# Altium footprint library Connector.PCBLIB: 82 footprints (part 2 of 6)
Each footprint in its own frame and in the unit in brackets; x right, y up, seen from the top. Pads: shape width x height; smd on the part's side, far side on the other; paste and mask are expansions set on the pad; w line width, h text height; cw(c..) or ccw(c..) is an arc to the next point about the centre after c.
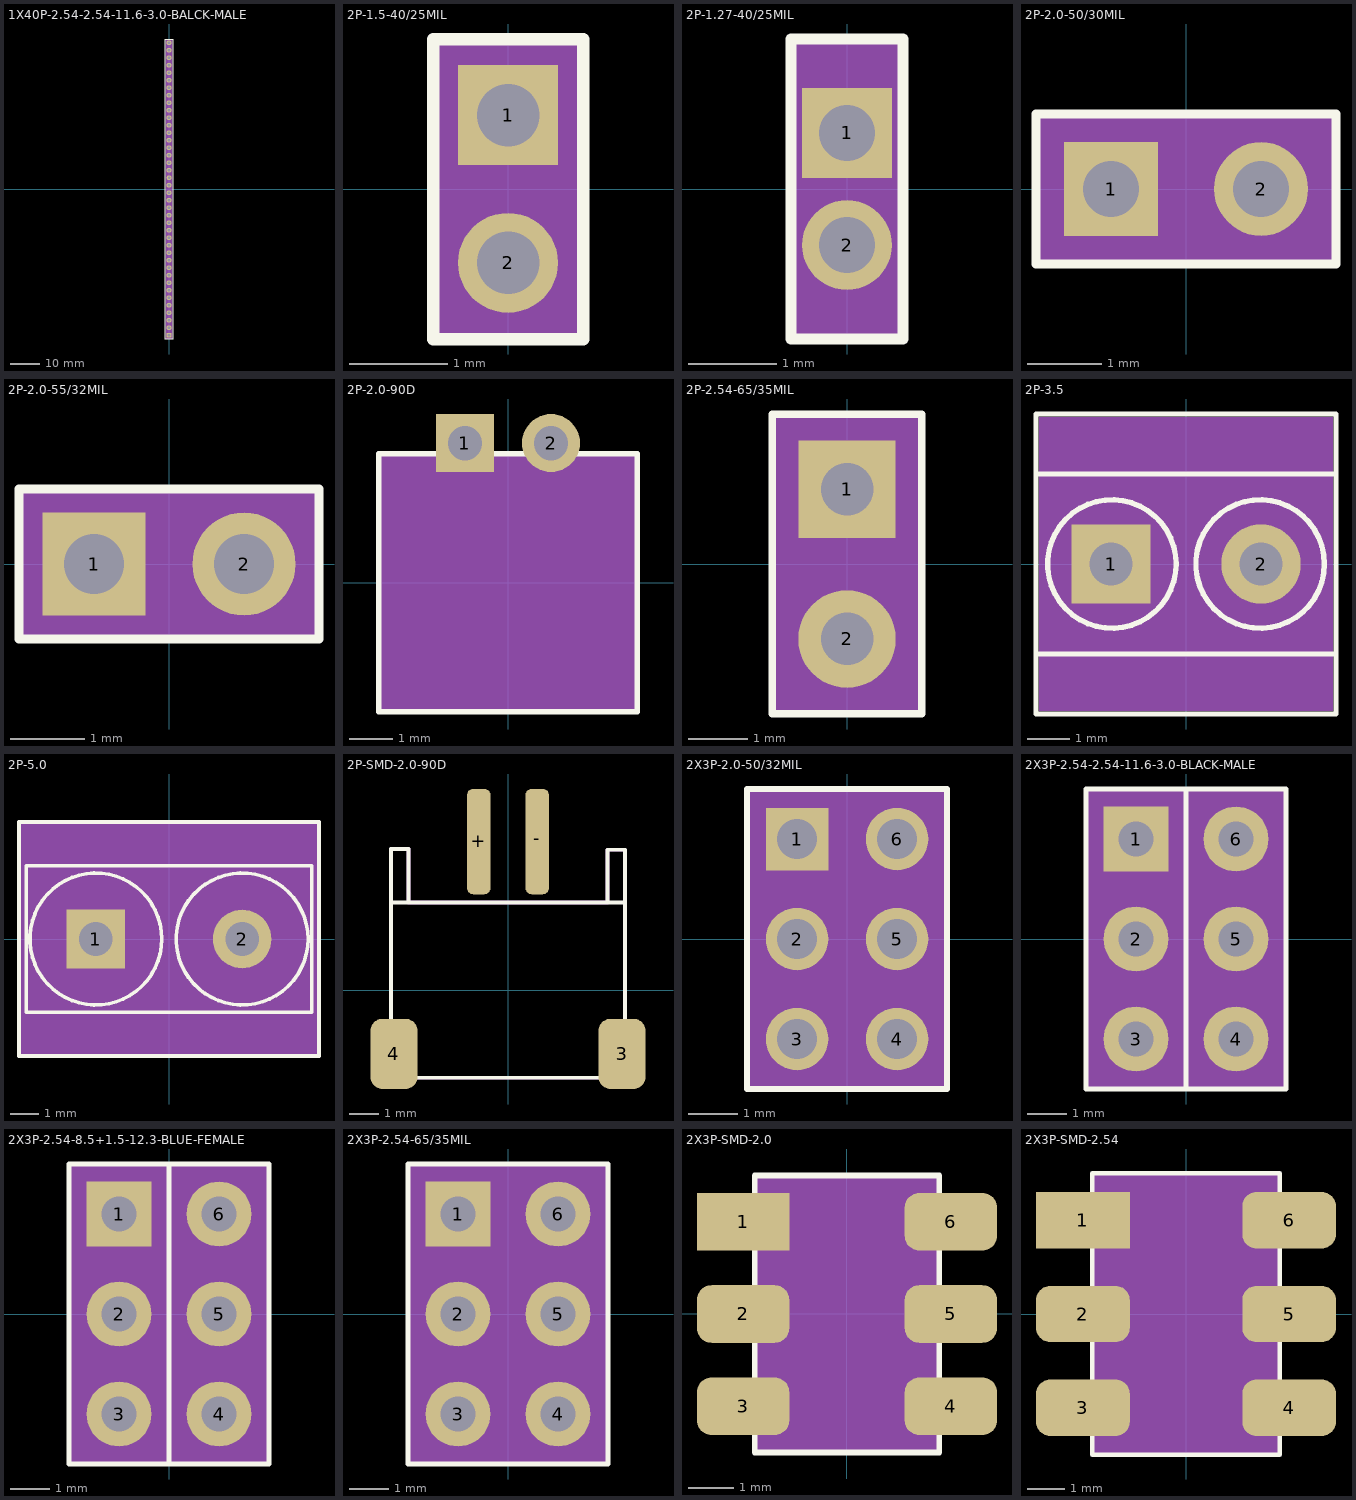
[diagram p1: the footprints below, top view; thin cyan lines are the x and y axes]

## 1X40P-2.54-2.54-11.6-3.0-BALCK-MALE [mil]
pads (40):
  rect 65x65 hole 35: 1(0,-1950)
  round 65 hole 35: 2(0,-1850) 3(0,-1750) 4(0,-1650) 5(0,-1550) 6(0,-1450) 7(0,-1350) 8(0,-1250) 9(0,-1150) 10(0,-1050) 11(0,-950) 12(0,-850) 13(0,-750) 14(0,-650) 15(0,-550) 16(0,-450) 17(0,-350) 18(0,-250) 19(0,-150) 20(0,-50) 21(0,50) 22(1,150) 23(0,250) 24(0,350) 25(0,450) 26(0,550) 27(0,650) 28(0,750) 29(0,850) 30(0,950) 31(0,1050) 32(0,1150) 33(0,1250) 34(0,1350) 35(0,1450) 36(0,1550) 37(0,1650) 38(0,1750) 39(0,1850) 40(0,1950)
Top Overlay:
  lines w5: -50,-2000 50,-2000 50,2000 -50,2000 -50,-2000
Mechanical 27:
  rectangle: -50,-2000 50,2000

## 2P-1.5-40/25MIL [mil]
pads (2):
  rect 40x40 hole 25: 1(0,29.53)
  round 40 hole 25: 2(0,-29.53)
Top Overlay:
  lines w5: -30,-60 30,-60 30,60 -30,60 -30,-60
Mechanical 27:
  rectangle: -30,-60 30,60

## 2P-1.27-40/25MIL [mil]
pads (2):
  rect 40x40 hole 25: 1(0,25)
  round 40 hole 25: 2(0,-25)
Top Overlay:
  lines w5: -25,-66.93 25,-66.93 25,66.93 -25,66.93 -25,-66.93
Mechanical 27:
  rectangle: -25,-66.93 25,66.93

## 2P-2.0-50/30MIL [mil]
pads (2):
  rect 50x50 hole 30: 1(-40,0)
  round 50 hole 30: 2(40,0)
Top Overlay:
  lines w5: -80,-40 80,-40 80,40 -80,40 -80,-40
Mechanical 27:
  rectangle: -80,-40 80,40

## 2P-2.0-55/32MIL [mil]
pads (2):
  rect 55x55 hole 32: 1(-40,0)
  round 55 hole 32: 2(40,0)
Top Overlay:
  lines w5: -80,-40 80,-40 80,40 -80,40 -80,-40
Mechanical 27:
  rectangle: -80,-40 80,40

## 2P-2.0-90D [mm]
pads (2):
  rect 1.35x1.35 hole 0.8: 1(-1,3.25)
  round 1.35 hole 0.8: 2(1,3.25)
Top Overlay:
  lines w0.127: -3,-3 3,-3 3,3 -3,3 -3,-3
Mechanical 27:
  rectangle: -3.048,-3.048 3.048,3.048

## 2P-2.54-65/35MIL [mil]
pads (2):
  rect 65x65 hole 35: 1(0,50)
  round 65 hole 35: 2(0,-50)
Top Overlay:
  lines w5: -50,-100 50,-100 50,100 -50,100 -50,-100
Mechanical 27:
  rectangle: -50,-100 50,100
  lines w0: -50,-100 -50,100 50,100 50,-100

## 2P-3.5 [mm]
pads (2):
  rect 1.85x1.85 hole 1: 1(-1.75,0)
  round 1.85 hole 1: 2(1.75,0)
Top Overlay:
  circle w0.127: c-1.73,0 r1.5
  circle w0.127: c1.73,0 r1.5
  lines w0.127: -3.5,-2.1 -3.5,-3.5 3.5,-3.5 3.5,-2.1 ; -3.5,-2.1 -3.5,2.1 ; -3.5,-2.1 3.5,-2.1 ; -3.5,2.1 -3.5,3.5 3.5,3.5 3.5,2.1 ; -3.5,2.1 3.5,2.1 ; 3.5,-2.1 3.5,2.1
Mechanical 27:
  rectangle: -3.429,-3.429 3.429,3.429

## 2P-5.0 [mil]
pads (2):
  rect 80x80 hole 46: 1(-100,0)
  round 80 hole 46: 2(100,0)
Top Overlay:
  circle w5: c-100,0 r90.14
  circle w5: c100,0 r90.14
  lines w5: -205,-160 -205,160 205,160 205,-160 -205,-160 ; -195,-100 -195,100 195,100 195,-100 -195,-100
Mechanical 27:
  region: 205,-160 205,160 -205,160 -205,-160

## 2P-SMD-2.0-90D [mil]
pads (4):
  rrect50% 62.99x94.49 smd: 3(153.54,-85.87) 4(-153.54,-85.87)
  rrect50% 31.5x141.73 smd: +(-39.37,200) -(39.37,200)
Top Overlay:
  lines w5: -157.48,118.11 -133.86,118.11 ; -157.48,118.11 -157.48,-118.11 157.48,-118.11 157.48,118.11 ; -157.48,118.11 -157.48,190 -133.86,190 -133.86,118.11 ; -133.86,118.11 133.86,118.11 ; 133.86,118.11 157.48,118.11 ; 133.86,118.11 133.86,188.98 157.48,188.98 157.48,118.11
Mechanical 27:
  lines w5: -157.48,-118.11 157.48,-118.11 157.48,188.98 133.86,188.98 133.86,118.11 -133.86,118.11 -133.86,190 -157.48,190 -157.48,-118.11

## 2X3P-2.0-50/32MIL [mil]
pads (6):
  rect 50x50 hole 32: 1(-40,80)
  round 50 hole 32: 2(-40,0) 3(-40,-80) 4(40,-80) 5(40,0) 6(40,80)
Top Overlay:
  lines w5: -80,-120 80,-120 80,120 -80,120 -80,-120
Mechanical 27:
  rectangle: -80,-120 80,120

## 2X3P-2.54-2.54-11.6-3.0-BLACK-MALE [mil]
pads (6):
  rect 65x65 hole 35: 1(-50,100)
  round 65 hole 35: 2(-50,0) 3(-50,-100) 4(50,-100) 5(50,0) 6(50,100)
Top Overlay:
  lines w5: 0,-150 100,-150 100,150 0,150 ; 0,-150 -100,-150 -100,150 0,150 ; 0,-150 0,150
Mechanical 27:
  rectangle: -100,-150 100,150
  lines w0: -100,-150 100,-150 100,150 -100,150 -100,-150

## 2X3P-2.54-8.5+1.5-12.3-BLUE-FEMALE [mil]
pads (6):
  rect 65x65 hole 35: 1(-50,100)
  round 65 hole 35: 2(-50,0) 3(-50,-100) 4(50,-100) 5(50,0) 6(50,100)
Top Overlay:
  lines w5: 0,-150 100,-150 100,150 0,150 ; 0,-150 -100,-150 -100,150 0,150 ; 0,-150 0,150
Mechanical 27:
  rectangle: -100,-150 100,150
  lines w0: -100,-150 100,-150 100,150 -100,150 -100,-150

## 2X3P-2.54-65/35MIL [mil]
pads (6):
  rect 65x65 hole 35: 1(-50,100)
  round 65 hole 35: 2(-50,0) 3(-50,-100) 4(50,-100) 5(50,0) 6(50,100)
Top Overlay:
  lines w5: -100,-150 100,-150 100,150 -100,150 -100,-150
Mechanical 27:
  rectangle: -100,-150 100,150
  lines w0: -100,-150 100,-150 100,150 -100,150 -100,-150

## 2X3P-SMD-2.0 [mil]
pads (6):
  rect 80x50 smd: 1(-90,80)
  rrect50% 80x50 smd: 2(-90,0) 3(-90,-80) 4(90,-80) 5(90,0) 6(90,80)
Top Overlay:
  lines w5: -80,-120 80,-120 80,120 -80,120 -80,-120
Mechanical 27:
  rectangle: -80,-120 80,120

## 2X3P-SMD-2.54 [mil]
pads (6):
  rect 100x60 smd: 1(-110,100)
  rrect50% 100x60 smd: 2(-110,0) 3(-110,-100) 4(110,-100) 5(110,0) 6(110,100)
Top Overlay:
  lines w5: -100,-150 100,-150 100,150 -100,150 -100,-150
Mechanical 27:
  rectangle: -100,-150 100,150